# Altium footprint library Seeed-OPL-crystal-osctllator.PCBLIB: 41 footprints (part 2 of 3)
Each footprint in its own frame and in the unit in brackets; x right, y up, seen from the top. Pads: shape width x height; smd on the part's side, far side on the other; paste and mask are expansions set on the pad; w line width, h text height; cw(c..) or ccw(c..) is an arc to the next point about the centre after c.
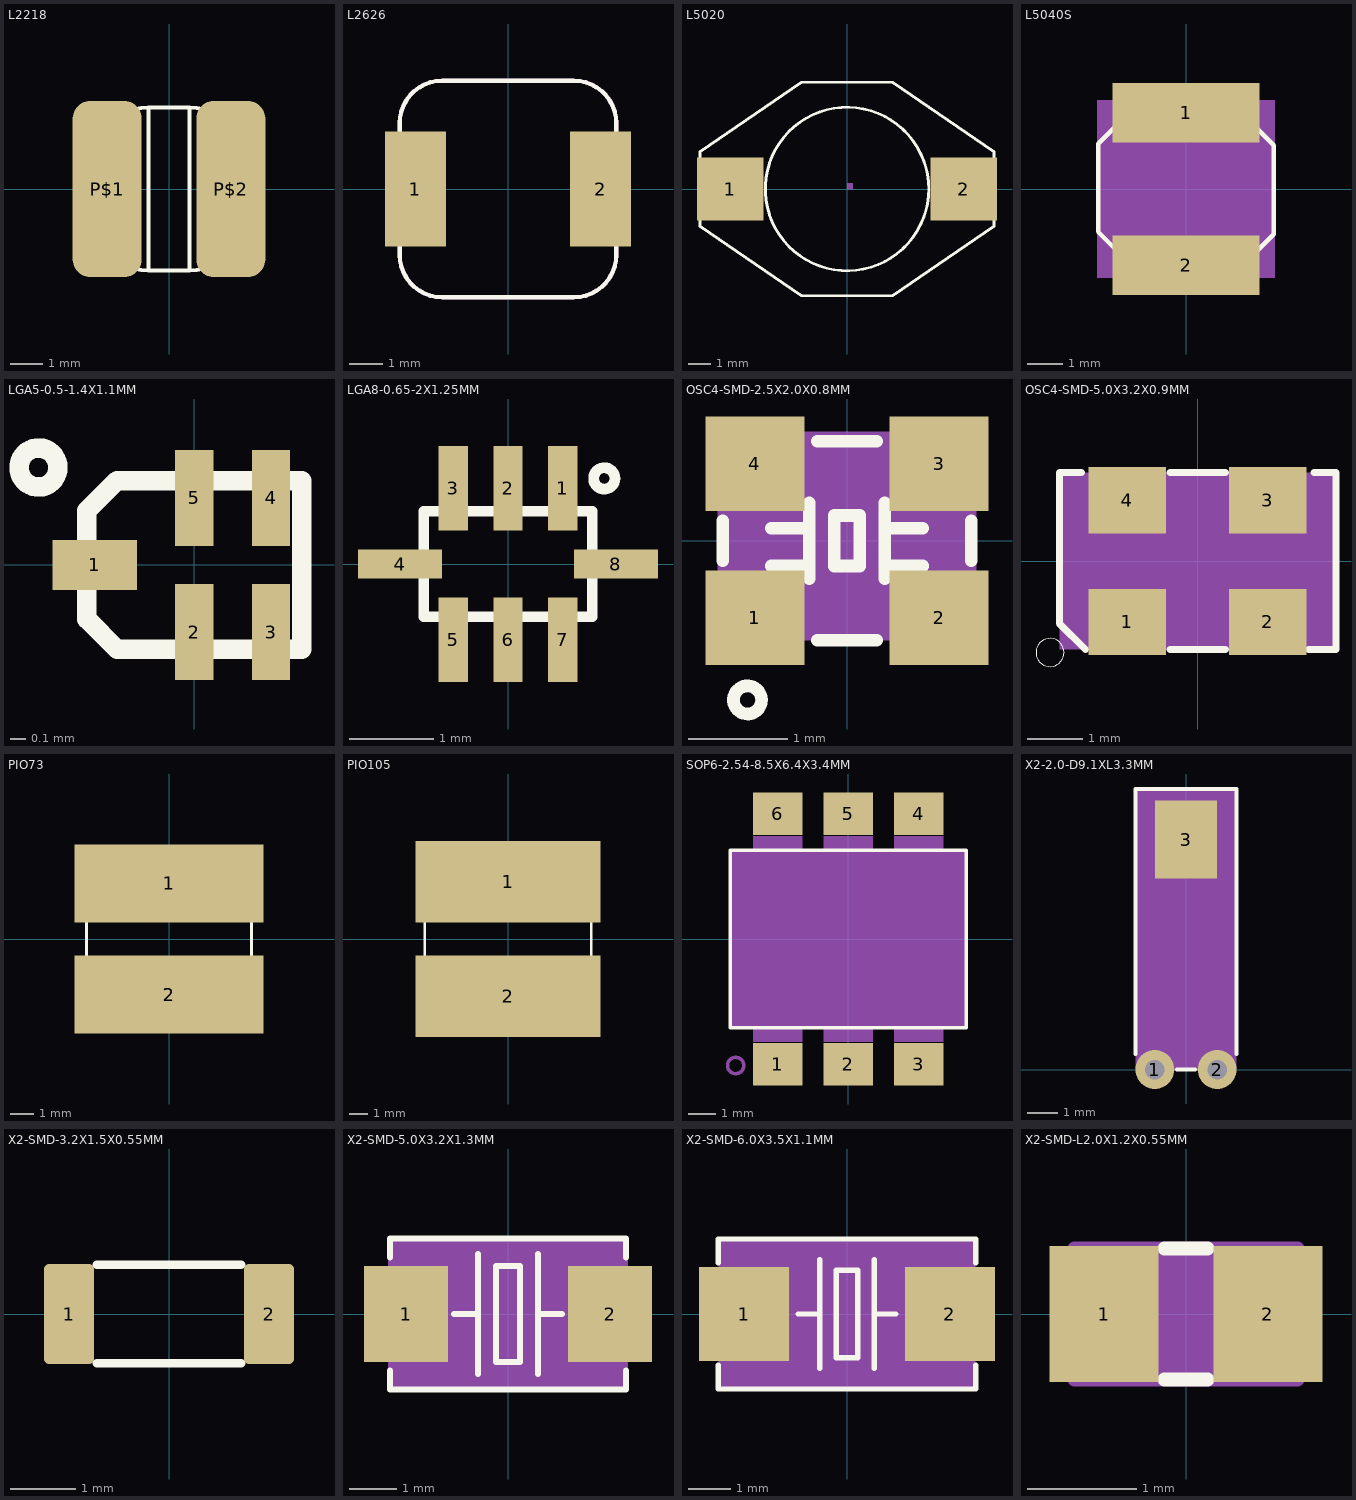
[diagram p1: the footprints below, top view; thin cyan lines are the x and y axes]

## L2218 [mil]
pads (2):
  rrect50% 84.65x216.54 smd: P$1(-75.79,0) P$2(75.79,0)
Top Overlay:
  lines w5: -25,-100 -25,100 ; -25,-100 25,-100 ; -25,-100 cw(c-25,-25) -100,-25 ccw(c-100,0) -75,0 ccw(c-100,0) -100,25 cw(c-25,25) -25,100 ; -25,100 25,100 ; 25,-100 25,100 ; 25,-100 ccw(c25,-25) 100,-25 cw(c100,0) 75,0 cw(c100,0) 100,25 ccw(c25,25) 25,100

## L2626 [mil]
pads (2):
  rect 72x135 smd: 1(-109,0) 2(109,0)
Top Overlay:
  lines w5: -127.5,-77.5 ccw(c-77.5,-77.5) -77.5,-127.5 77.5,-127.5 ccw(c77.5,-77.5) 127.5,-77.5 127.5,77.5 ccw(c77.5,77.5) 77.5,127.5 -77.5,127.5 ccw(c-77.5,77.5) -127.5,77.5 -127.5,-77.5
Mechanical 27:
  lines w5: -127.5,-77.5 ccw(c-77.5,-77.5) -77.5,-127.5 77.5,-127.5 ccw(c77.5,-77.5) 127.5,-77.5 127.5,77.5 ccw(c77.5,77.5) 77.5,127.5 -77.5,127.5 ccw(c-77.5,77.5) -127.5,77.5 -127.5,-77.5

## L5020 [mm]
pads (2):
  rect 2.92x2.79 smd: 1(-5.145,0) 2(5.145,0)
Top Overlay:
  circle w0.127: c0,0 r3.6
  lines w0.127: -6.475,-1.645 -2,-4.7 2,-4.7 6.475,-1.64 6.475,1.64 2,4.7 -2,4.7 -6.475,1.64 -6.475,-1.64
Mechanical 27:
  region: 0,0 0.254,0 0.254,0.254 0,0.254

## L5040S [mm]
pads (2):
  rect 4.2x1.7 smd: 1(0,2.175) 2(0,-2.175)
Top Overlay:
  lines w0.127: -2.5,-1.224 -2.5,1.286 -1.286,2.5 1.247,2.5 2.5,1.247 2.5,-1.286 1.286,-2.5 -1.224,-2.5 -2.5,-1.224
Mechanical 27:
  rectangle: -2.54,-2.54 2.54,2.54

## LGA5-0.5-1.4X1.1MM [mm]
pads (5):
  rect 0.55x0.326 smd: 1(-0.65,0)
  rect 0.25x0.625 smd: 2(0,-0.437) 3(0.5,-0.437) 4(0.5,0.437) 5(0,0.437)
Top Overlay:
  circle w0.127: c-1.016,0.635 r0.127
  lines w0.127: -0.7,-0.354 -0.503,-0.55 0.7,-0.55 0.7,0.55 -0.503,0.55 -0.7,0.354 -0.7,-0.354

## LGA8-0.65-2X1.25MM [mm]
pads (8):
  rect 0.35x1 smd: 1(0.65,0.9) 2(0,0.9) 3(-0.65,0.9) 5(-0.65,-0.9) 6(0,-0.9) 7(0.65,-0.9)
  rect 1x0.35 smd: 4(-1.281,0) 8(1.281,0)
Top Overlay:
  circle w0.127: c1.143,1.016 r0.127
  lines w0.127: -1,-0.625 1,-0.625 1,0.625 -1,0.625 -1,-0.625

## OSC4-SMD-2.5X2.0X0.8MM [mm]
pads (4):
  rect 1x0.95 smd: 1(-0.925,-0.775) 2(0.925,-0.775) 3(0.925,0.775) 4(-0.925,0.775)
Top Overlay:
  circle w0.127: c-1,-1.6 r0.141
  lines w0.127: -1.25,-0.2 -1.25,0.2 ; -0.762,-0.254 -0.381,-0.254 ; -0.762,0.127 -0.381,0.127 ; -0.381,-0.381 -0.381,-0.254 ; -0.381,0.381 -0.381,0.127 ; -0.3,-1 0.3,-1 ; -0.3,1 0.3,1 ; 0.381,-0.381 0.381,-0.254 ; 0.381,0.381 0.381,0.127 ; 0.762,-0.254 0.381,-0.254 ; 0.762,0.127 0.381,0.127 ; -0.381,-0.254 -0.381,0.127 ; 0.381,-0.254 0.381,0.127 ; -0.127,-0.254 -0.127,0.254 0.127,0.254 0.127,-0.254 -0.127,-0.254 ; 1.25,-0.2 1.25,0.2 1.25,-0.2
Mechanical 27:
  rectangle: -1.3,-1 1.3,1.1

## OSC4-SMD-5.0X3.2X0.9MM [mil]
pads (4):
  rect 55.12x47.24 smd: 1(-50,-43.31) 2(50,-43.31) 3(50,43.31) 4(-50,43.31)
Top Overlay:
  circle w0: c-105,-65 r10
  lines w5: -82.68,62.99 -98.43,62.99 -98.43,-44.31 -79.74,-62.99 ; -19.69,-62.99 19.69,-62.99 ; -19.69,62.99 19.69,62.99 ; 78.74,-62.99 98.43,-62.99 98.43,62.99 82.68,62.99
Mechanical 27:
  rectangle: -98.43,-62.99 98.43,62.99

## PIO73 [mm]
pads (2):
  rect 8x3.3 smd: 1(0,2.35) 2(0,-2.35)
Top Overlay:
  lines w0.127: -3.5,-2 -3.5,2 cw(c-1.3,1.7) -1,3.9 ccw(c0,3.9) 1,3.9 cw(c1.3,1.7) 3.5,2 3.5,-2 cw(c1.3,-1.7) 1,-3.9 ccw(c0,-3.9) -1,-3.9 cw(c-1.3,-1.7) -3.5,-2

## PIO105 [mil]
pads (2):
  rect 393.7x173.23 smd: 1(0,122.05) 2(0,-122.05)
Top Overlay:
  lines w5: -177.17,-100 -177.17,100 cw(c-65.16,84.84) -50,196.85 ccw(c0,196.85) 50,196.85 cw(c65.16,84.84) 177.17,100 177.17,-100 cw(c65.16,-84.84) 50,-196.85 ccw(c0,-196.85) -50,-196.85 cw(c-65.16,-84.84) -177.17,-100

## SOP6-2.54-8.5X6.4X3.4MM [mil]
pads (6):
  rect 70.08x59.84 smd: 1(-100,-177.36) 2(0,-177.36) 3(100,-177.36) 4(100,177.36) 5(0,177.36) 6(-100,177.36)
Top Overlay:
  lines w5: -167.32,-125.98 167.32,-125.98 167.32,125.98 -167.32,125.98 -167.32,-125.98
Mechanical 16:
  circle w5: c-131.89,-84.65 r15.37
  circle w5: c-159.45,-179.13 r11.48
  rectangle: -35.04,125.98 35.04,145.67
  rectangle: -135.04,125.98 -64.96,145.67
  rectangle: 64.96,125.98 135.04,145.67
  rectangle: -35.04,-145.67 35.04,-125.98
  rectangle: 64.96,-145.67 135.04,-125.98
  rectangle: -135.04,-145.67 -64.96,-125.98
Mechanical 27:
  rectangle: -167.32,-125.98 167.32,125.98

## X2-2.0-D9.1XL3.3MM [mil]
pads (3):
  round 50 hole 25: 1(-40,0) 2(40,0)
  rect 80x100 smd: 3(0,295)
Top Overlay:
  lines w5: -65,19.69 -65,360 65,360 65,19.69 ; -11.81,0 11.81,0
Mechanical 27:
  rectangle: -65,0 65,360

## X2-SMD-3.2X1.5X0.55MM [mil]
pads (2):
  rrect20% 30x60 smd: 1(-60,0) 2(60,0)
Top Overlay:
  lines w5: -43.31,-29.53 43.31,-29.53 ; -43.31,29.53 43.31,29.53

## X2-SMD-5.0X3.2X1.3MM [mil]
pads (2):
  rect 70x80 smd: 1(-85,0) 2(85,0)
Top Overlay:
  lines w5: -98.43,-47.24 -98.43,-62.99 98.43,-62.99 98.43,-47.24 ; -98.43,47.24 -98.43,62.99 98.43,62.99 98.43,47.24 ; -45,0 -25,0 ; -25,-50 -25,0 ; -25,50 -25,0 ; 25,-50 25,0 ; 25,50 25,0 ; 45,0 25,0 ; -10,-40 -10,40 10,40 10,-40 -10,-40
Mechanical 16:
  rectangle: -100,-40 -50,40
  rectangle: 50,-40 100,40
Mechanical 27:
  rectangle: -100,-65 100,65

## X2-SMD-6.0X3.5X1.1MM [mil]
pads (2):
  rect 82.68x86.61 smd: 1(-94.49,0) 2(94.49,0)
Top Overlay:
  lines w5: -118.11,-47.24 -118.11,-68.9 118.11,-68.9 118.11,-47.24 ; -118.11,47.24 -118.11,68.9 118.11,68.9 118.11,47.24 ; -45,0 -25,0 ; -25,-50 -25,0 ; -25,50 -25,0 ; 25,-50 25,0 ; 25,50 25,0 ; 45,0 25,0 ; -10,-40 -10,40 10,40 10,-40 -10,-40
Mechanical 16:
  rectangle: -100,-40 -50,40
  rectangle: 50,-40 100,40
Mechanical 27:
  rectangle: -118.11,-68.9 118.11,68.9

## X2-SMD-L2.0X1.2X0.55MM [mm]
pads (2):
  rect 1x1.25 smd: 1(-0.75,0) 2(0.75,0)
Top Overlay:
  lines w0.127: -0.2,-0.6 0.2,-0.6 ; -0.2,0.6 0.2,0.6 -0.2,0.6
Mechanical 16:
  lines w0.127: -1.025,-0.6 1.025,-0.6 1.025,0.6 -1.025,0.6 -1.025,-0.6
Mechanical 27:
  rectangle: -1,-0.6 1,0.6